# Altium footprint library PCA9540BDP.PcbLib: 1 footprints
Each footprint in its own frame and in the unit in brackets; x right, y up, seen from the top. Pads: shape width x height; smd on the part's side, far side on the other; paste and mask are expansions set on the pad; w line width, h text height; cw(c..) or ccw(c..) is an arc to the next point about the centre after c.
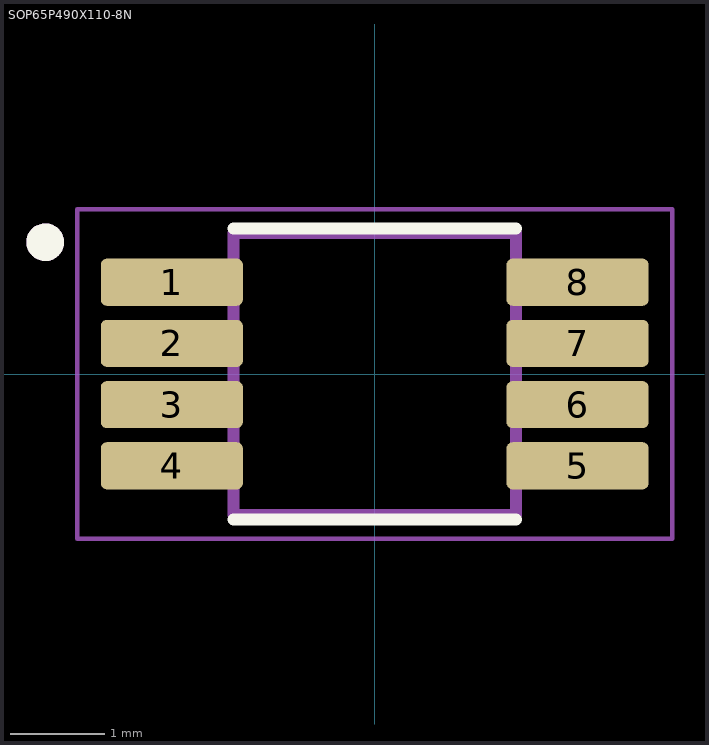
[diagram p0: the footprint, top view; thin cyan lines are the x and y axes]

## SOP65P490X110-8N [mm]
pads (8):
  rrect25% 1.51x0.5 smd: 1(-2.155,0.975) 2(-2.155,0.325) 3(-2.155,-0.325) 4(-2.155,-0.975) 5(2.155,-0.975) 6(2.155,-0.325) 7(2.155,0.325) 8(2.155,0.975)
Top Overlay:
  circle w0.2: c-3.5,1.4 r0.1
  lines w0.127: -1.5,-1.545 1.5,-1.545 ; -1.5,1.545 1.5,1.545
Mechanical 13:
  circle w0.2: c-3.5,1.4 r0.1
  lines w0.127: -1.5,-1.5 -1.5,1.5 1.5,1.5 1.5,-1.5 -1.5,-1.5
Mechanical 15:
  lines w0.05: -3.16,-1.75 -3.16,1.75 3.16,1.75 3.16,-1.75 -3.16,-1.75